# EAGLE library part 1040310811 (library Deegou_Connector)
MICRO SD card socket, push-pull 1.42H Normal type Source: Datasheet <http://www.molex.com/pdm_docs/sd/1040310811_sd.pdf>
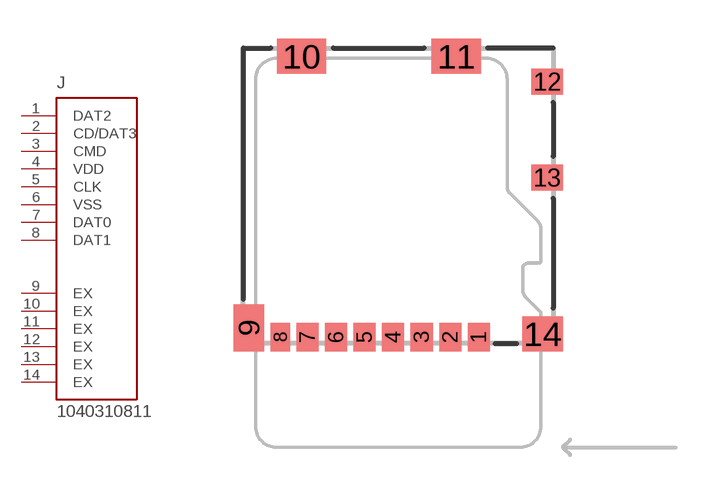
[diagram p24: symbol with the pads of 1040310811; footprint 1040310811]

Designator prefix J

## 1040310811 (ARROW_PART_NUMBER: 1040310811; ARROW_PRICE-STOCK: https://www.arrow.com/en/products/1040310811/molex; DESCRIPTION: MICRO SD card socket, push-pull 1.42H Normal type; HEIGHT: mm; MANUFACTURER_NAME: Molex; MANUFACTURER_PART_NUMBER: 1040310811)  [1040310811]
1  DAT2
2  CD/DAT3
3  CMD
4  VDD
5  CLK
6  VSS
7  DAT0
8  DAT1
9  EX
10  EX
11  EX
12  EX
13  EX
14  EX

## Footprint 1040310811 (pad centres in mm)
1040310811
smd 0.85 x 1.1: 1 3.105,0.25; 2 2.005,0.25; 3 0.905,0.25; 4 -0.195,0.25; 5 -1.295,0.25; 6 -2.395,0.25; 7 -3.495,0.25
smd 0.75 x 1.1: 8 -4.545,0.25
smd 1.17 x 1.8: 9 -5.755,0.6
smd 1.9 x 1.35: 10 -3.73,11.075; 11 2.24,11.075
smd 1.2 x 1: 12 5.74,10.1; 13 5.74,6.4
smd 1.55 x 1.35: 14 5.565,0.375